# EAGLE library part FPC_14_0.5MM (library New_Parts_Connectors)
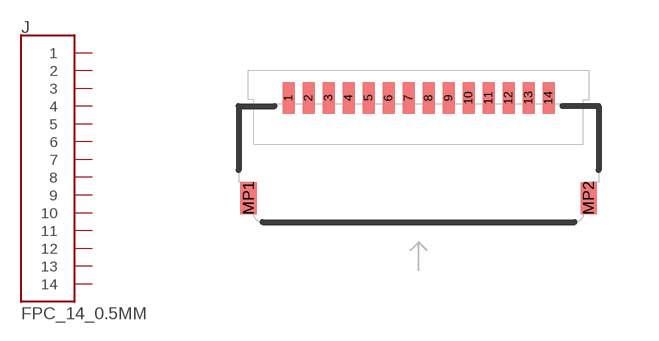
[diagram p1: symbol with the pads of FPC_14_DOUBLESIDED_BACKFLIP; footprint FPC_14_DOUBLESIDED_BACKFLIP]

Designator prefix J

## FPC_14_0.5MM_BACKFLIP (ATOM_PART: FPC05014-42201)  [FPC_14_DOUBLESIDED_BACKFLIP]
1  1
2  2
3  3
4  4
5  5
6  6
7  7
8  8
9  9
10  10
11  11
12  12
13  13
14  14

## Footprint FPC_14_DOUBLESIDED_BACKFLIP (pad centres in mm)
smd 0.3 x 0.8: 1 -3.25,1.35; 2 -2.75,1.35; 3 -2.25,1.35; 4 -1.75,1.35; 5 -1.25,1.35; 6 -0.75,1.35; 7 -0.25,1.35; 8 0.25,1.35; 9 0.75,1.35; 10 1.25,1.35; 11 1.75,1.35; 12 2.25,1.35; 13 2.75,1.35; 14 3.25,1.35
smd 0.4 x 0.8: MP1 -4.25,-1.15; MP2 4.25,-1.15